# Altium footprint library SLH 2805.PcbLib: 1 footprints
Each footprint in its own frame and in the unit in brackets; x right, y up, seen from the top. Pads: shape width x height; smd on the part's side, far side on the other; paste and mask are expansions set on the pad; w line width, h text height; cw(c..) or ccw(c..) is an arc to the next point about the centre after c.
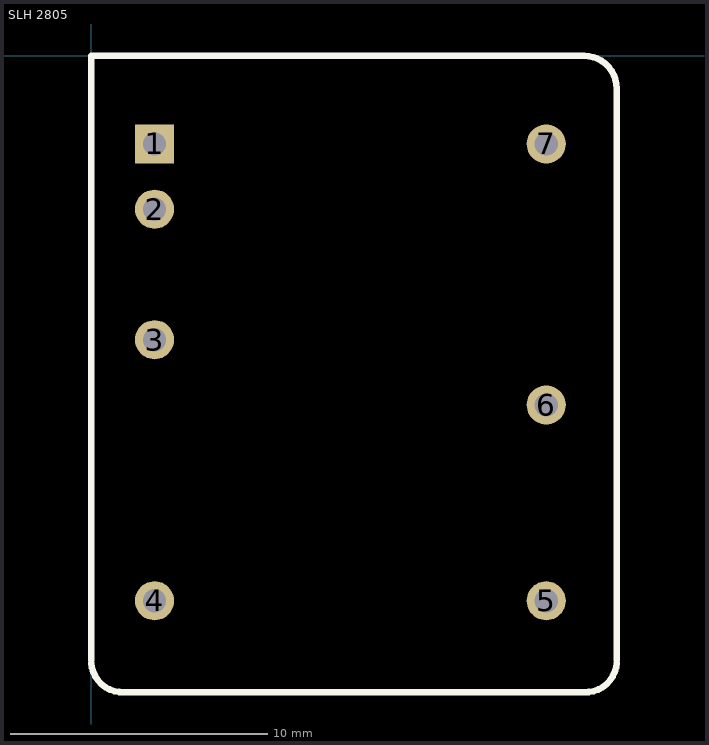
[diagram p0: the footprint, top view; thin cyan lines are the x and y axes]

## SLH 2805 [mil]
pads (7):
  rect 60x60 hole 35.43: 1(97,-135)
  round 60 hole 35.43: 2(97,-235) 3(97,-435) 4(97,-835) 5(697,-835) 6(697,-535) 7(697,-135)
Top Overlay:
  lines w10: 0,-930 ccw(c47.5,-927.5) 50,-975 755,-975 ccw(c757.5,-927.5) 805,-930 ; 0,-925 0,0 755,0 cw(c755,-50) 805,-50 805,-925
3D body: height 270, standoff 0, extent 0,-980 805,0